# EAGLE library part FM24C04 (library ramtron)
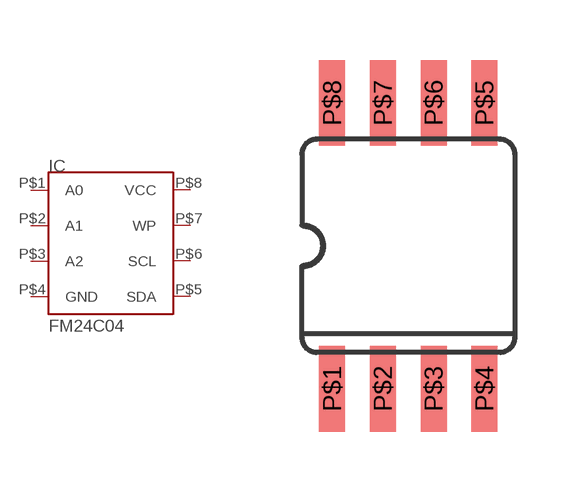
[diagram p3: symbol with the pads of EIAJ-SOIC-8; footprint EIAJ-SOIC-8]

Designator prefix IC

## FM24C04  [EIAJ-SOIC-8]
P$1  A0  pas
P$2  A1  pas
P$3  A2  pas
P$4  GND  pwr
P$5  SDA
P$6  SCL  in
P$7  WP  pas
P$8  VCC  pwr

## Footprint EIAJ-SOIC-8 (pad centres in mm)
smd 0.65 x 2.15: P$1 -1.905,-3.576; P$2 -0.635,-3.576; P$3 0.635,-3.576; P$4 1.905,-3.576; P$5 1.905,3.576; P$6 0.635,3.576; P$7 -0.635,3.576; P$8 -1.905,3.576